# EAGLE library part BL-S230X-12 (library alpha)
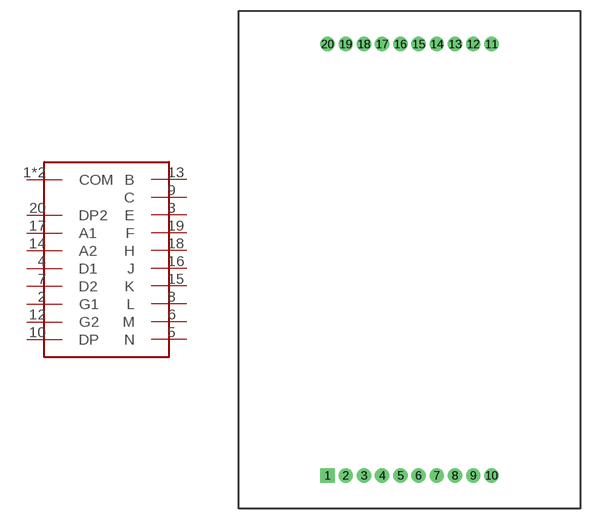
[diagram p0: symbol with the pads of BL-S230X-12; footprint BL-S230X-12]

Designator prefix -

## BL-S230X-12  [BL-S230X-12]
1  COM
2  G1
3  E
4  D1
5  N
6  M
7  D2
8  L
9  C
10  DP
11  COM
12  G2
13  B
14  A2
15  K
16  J
17  A1
18  H
19  F
20  DP2

## Footprint BL-S230X-12 (pad centres in mm)
drill 1.1 pad 2 square: 1 -11.43,-30.1
drill 1.1 pad 2: 2 -8.89,-30.1; 3 -6.35,-30.1; 4 -3.81,-30.1; 5 -1.27,-30.1; 6 1.27,-30.1; 7 3.81,-30.1; 8 6.35,-30.1; 9 8.89,-30.1; 10 11.43,-30.1; 11 11.43,30.1; 12 8.89,30.1; 13 6.35,30.1; 14 3.81,30.1; 15 1.27,30.1; 16 -1.27,30.1; 17 -3.81,30.1; 18 -6.35,30.1; 19 -8.89,30.1; 20 -11.43,30.1